# Altium schematic symbol library LD03-23B03R2.SchLib: 1 symbol
Pins are listed as number, name and electrical type; pins without a type are passive.

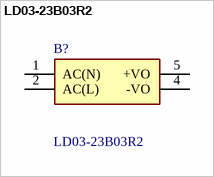
[diagram p0: symbol LD03-23B03R2]

## LD03-23B03R2
designator B?
Enclosed AC DC Converters 1 Uitgang 3.3V - - - 900mA 85 ~ 305 VAC, 100 ~ 430 VDC Input; Manufacturer_Name: Mornsun Power; Geometry.Height: 18.1mm; Manufacturer_Part_Number: LD03-23B03R2; Mouser Part Number: *; Mouser Price/Stock: *; Arrow Part Number: *; Arrow Price/Stock: *; Datasheet Link: https://www.mornsun-power.com/html/pdf/LD03-23B03R2.html
footprint LD0323B03R2
pins: 1 AC(N), 2 AC(L), 4 -VO, 5 +VO